# Altium schematic symbol library MB0002A.01.A.1.SchLib: 1 symbol
Pins are listed as number, name and electrical type; pins without a type are passive.

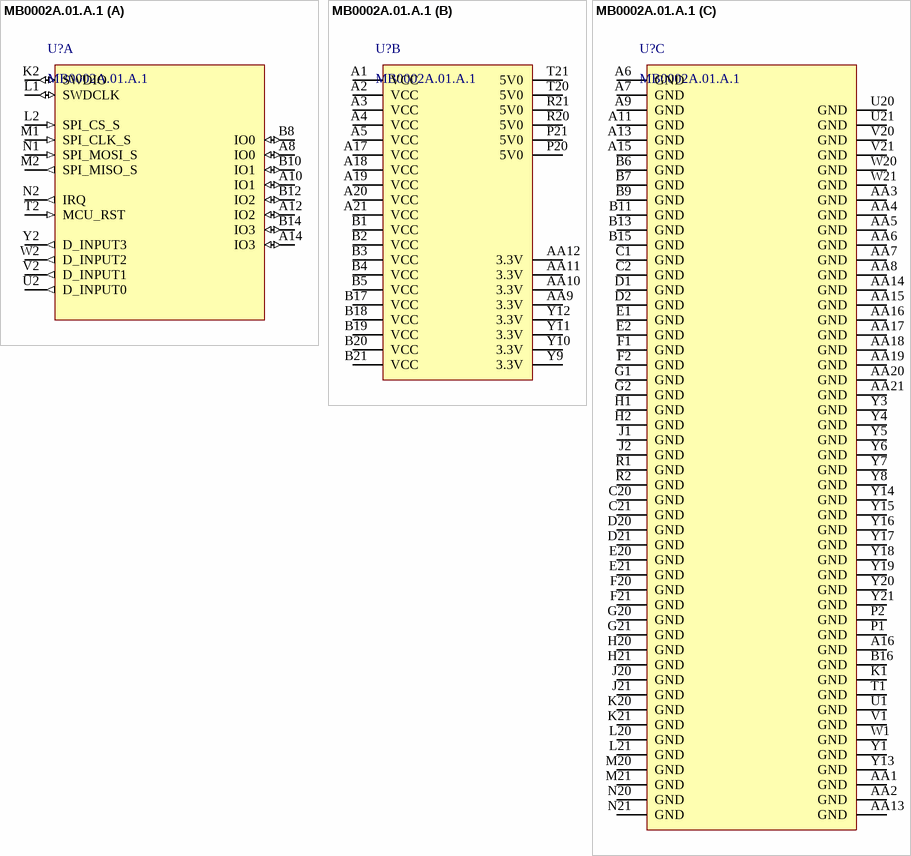
[diagram p0: symbol MB0002A.01.A.1]

## MB0002A.01.A.1
designator U?
part A pins: A8 IO0 (io), A10 IO1 (io), A12 IO2 (io), A14 IO3 (io), B8 IO0 (io), B10 IO1 (io), B12 IO2 (io), B14 IO3 (io), K2 SWDIO (io), L1 SWDCLK (io), L2 SPI_CS_S (in), M1 SPI_CLK_S (in), M2 SPI_MISO_S (out), N1 SPI_MOSI_S (in), N2 IRQ (out), T2 MCU_RST (in), U2 D_INPUT0 (out), V2 D_INPUT1 (out), W2 D_INPUT2 (out), Y2 D_INPUT3 (out)
part B pins: A1 VCC (power), A2 VCC (power), A3 VCC (power), A4 VCC (power), A5 VCC (power), A17 VCC (power), A18 VCC (power), A19 VCC (power), A20 VCC (power), A21 VCC (power), AA9 3.3V (power), AA10 3.3V (power), AA11 3.3V (power), AA12 3.3V (power), B1 VCC (power), B2 VCC (power), B3 VCC (power), B4 VCC (power), B5 VCC (power), B17 VCC (power), B18 VCC (power), B19 VCC (power), B20 VCC (power), B21 VCC (power), P20 5V0 (power), P21 5V0 (power), R20 5V0 (power), R21 5V0 (power), T20 5V0 (power), T21 5V0 (power), Y9 3.3V (power), Y10 3.3V (power), Y11 3.3V (power), Y12 3.3V (power)
part C pins: A6 GND (power), A7 GND (power), A9 GND (power), A11 GND (power), A13 GND (power), A15 GND (power), A16 GND, AA1 GND, AA2 GND, AA3 GND (power), AA4 GND (power), AA5 GND (power), AA6 GND (power), AA7 GND (power), AA8 GND (power), AA13 GND, AA14 GND (power), AA15 GND (power), AA16 GND (power), AA17 GND (power), AA18 GND (power), AA19 GND (power), AA20 GND (power), AA21 GND (power), B6 GND (power), B7 GND (power), B9 GND (power), B11 GND (power), B13 GND (power), B15 GND (power), B16 GND, C1 GND (power), C2 GND (power), C20 GND (power), C21 GND (power), D1 GND (power), D2 GND (power), D20 GND (power), D21 GND (power), E1 GND (power), E2 GND (power), E20 GND (power), E21 GND (power), F1 GND (power), F2 GND (power), F20 GND (power), F21 GND (power), G1 GND (power), G2 GND (power), G20 GND (power), G21 GND (power), H1 GND (power), H2 GND (power), H20 GND (power), H21 GND (power), J1 GND (power), J2 GND (power), J20 GND (power), J21 GND (power), K1 GND, K20 GND (power), K21 GND (power), L20 GND (power), L21 GND (power), M20 GND (power), M21 GND (power), N20 GND (power), N21 GND (power), P1 GND (power), P2 GND (power), R1 GND (power), R2 GND (power), T1 GND, U1 GND, U20 GND (power), U21 GND (power), V1 GND, V20 GND (power), V21 GND (power), W1 GND, W20 GND (power), W21 GND (power), Y1 GND, Y3 GND (power), Y4 GND (power), Y5 GND (power), Y6 GND (power), Y7 GND (power), Y8 GND (power), Y13 GND, Y14 GND (power), Y15 GND (power), Y16 GND (power), Y17 GND (power), Y18 GND (power), Y19 GND (power), Y20 GND (power), Y21 GND (power)